# EAGLE library part ADS1248 (library libredaq-comps)
ADS1248: 24-Bit Analog-to-Digital Converters for Temperature Sensors
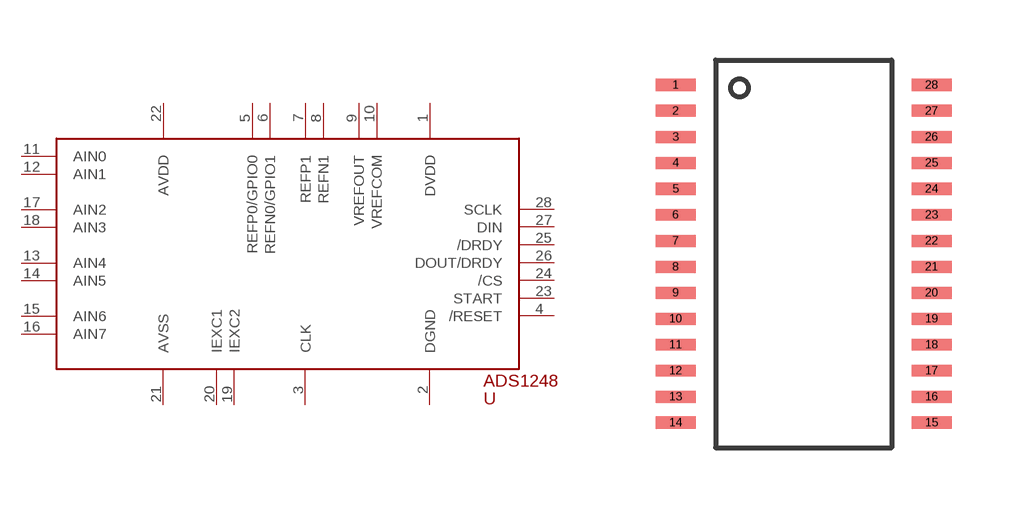
[diagram p16: symbol with the pads of TSSOP-28_4MM; footprint TSSOP-28_4MM]

Designator prefix U

## ADS1248  [TSSOP-28_4MM]
1  DVDD
2  DGND
3  CLK
4  /RESET
5  REFP0/GPIO0
6  REFN0/GPIO1
7  REFP1
8  REFN1
9  VREFOUT
10  VREFCOM
11  AIN0
12  AIN1
13  AIN4
14  AIN5
15  AIN6
16  AIN7
17  AIN2
18  AIN3
19  IEXC2
20  IEXC1
21  AVSS
22  AVDD
23  START
24  /CS
25  /DRDY
26  DOUT/DRDY
27  DIN
28  SCLK

## Footprint TSSOP-28_4MM (pad centres in mm)
smd 1 x 0.3: 1 -3.2,4.225; 2 -3.2,3.575; 3 -3.2,2.925; 4 -3.2,2.275; 5 -3.2,1.625; 6 -3.2,0.975; 7 -3.2,0.325; 8 -3.2,-0.325; 9 -3.2,-0.975; 10 -3.2,-1.625; 11 -3.2,-2.275; 12 -3.2,-2.925; 13 -3.2,-3.575; 14 -3.2,-4.225; 15 3.2,-4.225; 16 3.2,-3.575; 17 3.2,-2.925; 18 3.2,-2.275; 19 3.2,-1.625; 20 3.2,-0.975; 21 3.2,-0.325; 22 3.2,0.325; 23 3.2,0.975; 24 3.2,1.625; 25 3.2,2.275; 26 3.2,2.925; 27 3.2,3.575; 28 3.2,4.225